# Altium integrated library lib_infineon.IntLib: 3 symbols
Pins are listed as number, name and electrical type; pins without a type are passive.

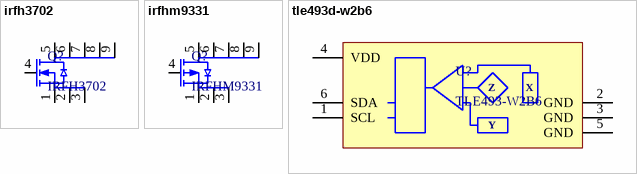
[diagram p0: symbols irfh3702 to tle493d-w2b6]

## irfh3702
designator Q?, comment IRFH3702
HEXFET Power MOSFET; ComponentLink1Description: datasheet; ComponentLink1URL: https://www.infineon.com/dgdl/irfh3702pbf.pdf?fileId=5546d462533600a40153561a25871e76
footprint PQFN67P300X300X100-8N (PQFN, 8-Leads, Body 3.00x3.00mm, Pitch 0.67mm, IPC Medium Density)
pins: 1 S, 2 S, 3 S, 4 G, 5 D, 6 D, 7 D, 8 D, 9 D

## irfhm9331
designator Q?, comment IRFHM9331
HEXFET Power MOSFET; ComponentLink1Description: datasheet; ComponentLink1URL: https://www.infineon.com/dgdl/irfhm9331pbf.pdf?fileId=5546d462533600a4015356237f7e1f59
footprint PQFN67P300X300X100-8N (PQFN, 8-Leads, Body 3.00x3.00mm, Pitch 0.67mm, IPC Medium Density)
pins: 1 S, 2 S, 3 S, 4 G, 5 D, 6 D, 7 D, 8 D, 9 D

## tle493d-w2b6
designator U?, comment TLE493-W2B6
Low Power 3D Hall Sensor with I2C Interface and Wake Up Function; ComponentLink1Description: Datasheet; ComponentLink1URL: https://www.infineon.com/dgdl/Infineon-Infineon-TLE493D-W2B6%20A0-A3%203D%20Magnetic%20Sensor-DS-v01_00-EN.pdf?fileId=5546d46261764359016189ec158943a4; #digikey: *
footprint SOT95P280X110-6N-TLE493 (SOT23, 6-Leads, Body 2,90x2,80mm, Pitch 0,95mm, IPC Medium Density)
pins: 1 SCL (oc), 2 GND (power), 3 GND (power), 4 VDD (power), 5 GND (power), 6 SDA (oc)
text: Z; X; Y